# EAGLE library part HC-RJ45-5224-1-6 (library CONNECTORs)
RJ45 RJReceptacle Unshielded 1 Straight 260℃@3S Gold Phosphor coppe Without LED Plugin Ethernet Connectors/Modular Connectors (RJ45 RJ11) ROHS
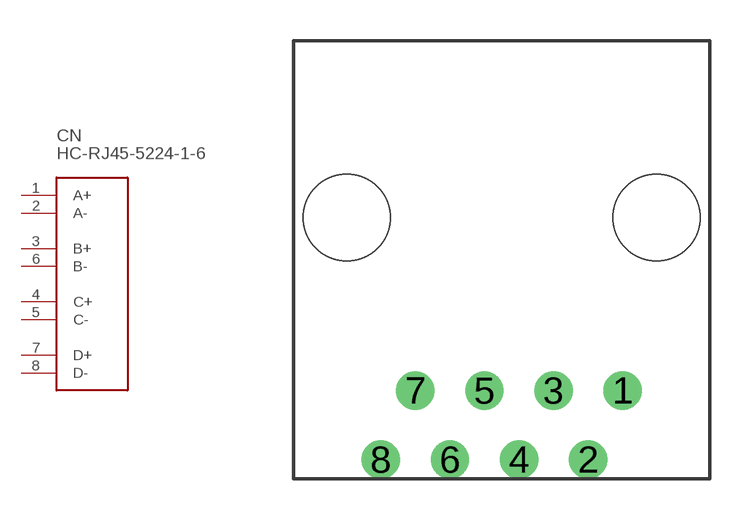
[diagram p94: symbol with the pads of HC-RJ45-5224-1-6; footprint HC-RJ45-5224-1-6]

Designator prefix CN

## HC-RJ45-5224-1-6 (HEIGHT: 16.5; LCSC: C3010562; PRICE_PER: 0.19; VALUE: RJ45)  [HC-RJ45-5224-1-6]
1  A+
2  A-
3  B+
4  C+
5  C-
6  B-
7  D+
8  D-

## Footprint HC-RJ45-5224-1-6 (pad centres in mm)
drill 0.9: 1 4.445,-4.81; 2 3.175,-7.35; 3 1.905,-4.81; 4 0.635,-7.35; 5 -0.635,-4.81; 6 -1.905,-7.35; 7 -3.175,-4.81; 8 -4.445,-7.35
hole 3.2 at -5.7,1.55
hole 3.2 at 5.7,1.55